# Altium footprint library Composants_Projet_PCB_Full.PcbLib: 52 footprints (part 1 of 4)
Each footprint in its own frame and in the unit in brackets; x right, y up, seen from the top. Pads: shape width x height; smd on the part's side, far side on the other; paste and mask are expansions set on the pad; w line width, h text height; cw(c..) or ccw(c..) is an arc to the next point about the centre after c.
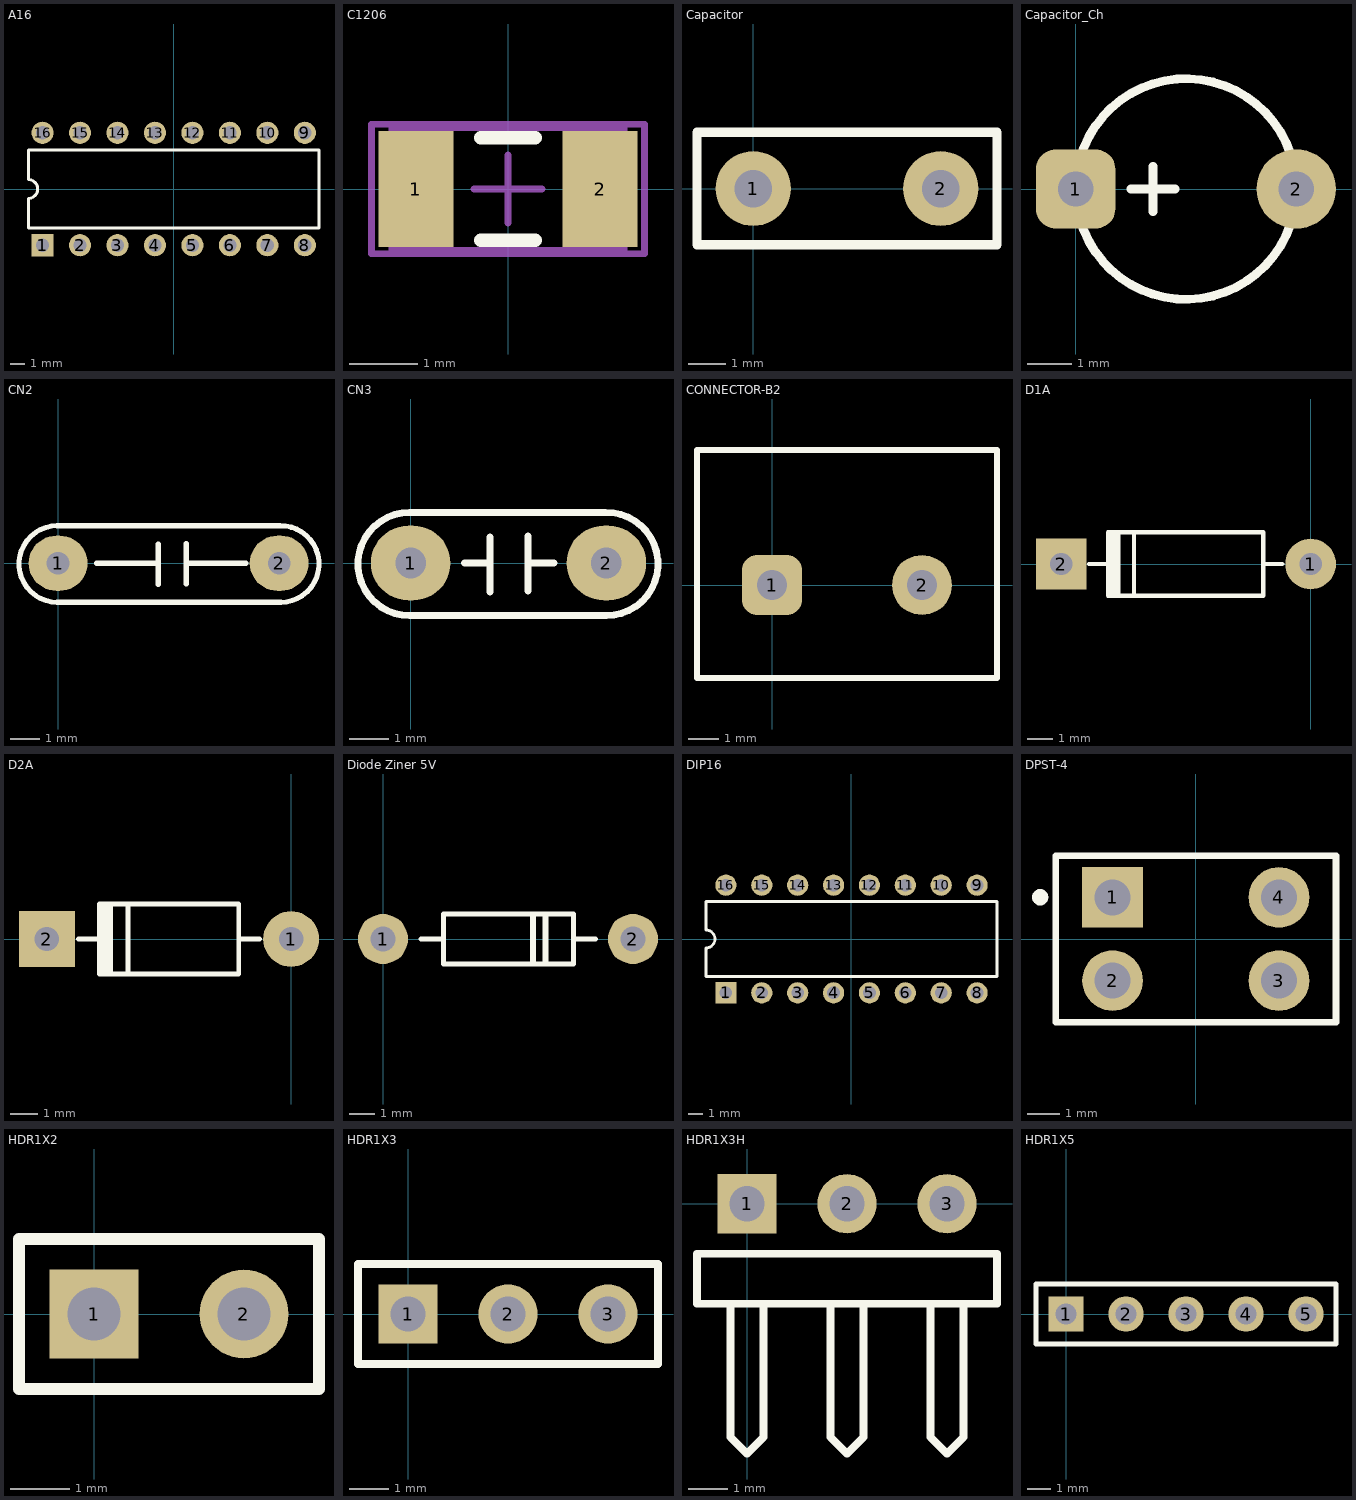
[diagram p0: the footprints below, top view; thin cyan lines are the x and y axes]

## A16 [mm]
pads (16):
  rect 1.5x1.5 hole 0.9: 1(-8.89,-3.81)
  round 1.5 hole 0.9: 2(-6.35,-3.81) 3(-3.81,-3.81) 4(-1.27,-3.81) 5(1.27,-3.81) 6(3.81,-3.81) 7(6.35,-3.81) 8(8.89,-3.81) 9(8.89,3.81) 10(6.35,3.81) 11(3.81,3.81) 12(1.27,3.81) 13(-1.27,3.81) 14(-3.81,3.81) 15(-6.35,3.81) 16(-8.89,3.81)
Top Overlay:
  lines w0.2: -9.85,-2.65 -9.85,-0.635 ccw(c-9.85,0) -9.85,0.635 -9.85,2.65 9.85,2.65 9.85,-2.65 -9.85,-2.65

## C1206 [mm]
pads (2):
  rect 1.1x1.7 smd: 1(-1.35,0) 2(1.35,0)
Top Overlay:
  lines w0.2: -0.4,-0.75 0.4,-0.75 ; -0.4,0.75 0.4,0.75
Mechanical 13:
  lines w0.1: -1.7,-0.9 -1.7,0.9 1.7,0.9 1.7,-0.9 -1.7,-0.9
Mechanical 15:
  lines w0.1: -0.5,0 0.5,0 ; 0,-0.5 0,0.5 ; -2,-0.95 -2,0.95 2,0.95 2,-0.95 -2,-0.95
3D body "CAP Tant T491 SMT.stp": height 3.81, standoff 2.01, extent -1.573,-0.911 1.827,0.889

## Capacitor [mm]
pads (2):
  round 2 hole 1: 1(0,0) 2(5,0)
Top Overlay:
  lines w0.1: -1.27,-1.524 -1.246,-1.5
  lines w0.25: -1.5,-1.5 -1.5,1.5 6.5,1.5 6.5,-1.5 -1.5,-1.5

## Capacitor_Ch [mm]
pads (2):
  rrect50% 1.8x1.8 hole 0.8: 1(0,0)
  round 1.8 hole 0.8: 2(5,0)
Top Overlay:
  circle w0.2: c2.5,0 r2.5
  lines w0.2: 1.25,0 2.25,0 ; 1.75,-0.508 1.75,0.508

## CN2 [mil]
pads (2):
  oval 80x75 hole 31: 1(0,0) 2(300,0)
Top Overlay:
  lines w7: -1,-53 cw(c-1,-1) -1,51 ; 0,51 300,51 ; 1,-53 300,-53 ; 52,0 136,0 ; 136,-29 136,26 ; 174,-28 174,27 ; 174,0 255,0 ; 300.96,50.99 cw(c302,-1) 302,-53
3D body "User Library-CAPML200 (2_5x6_6).STEP": height 359.84, standoff -148.32, extent -34.26,-56.17 244.28,46.19

## CN3 [mil]
pads (2):
  oval 80x75 hole 31: 1(0,0) 2(196.85,0)
Top Overlay:
  lines w7: -1,-53 cw(c-1,-1) -1,51 ; 0,51 195,51 ; 1,-53 196.85,-53 ccw(c196.85,-0.98) 195.81,51.01 ; 54.02,0 80.02,0 ; 80.02,-29 80.02,26 ; 118.02,-28 118.02,27 ; 118.02,0 144.02,0
3D body "User Library-CAPML200 (2_5x6_6).STEP": height 359.84, standoff -148.32, extent -34.26,-56.17 244.28,46.19

## CONNECTOR-B2 [mm] "HEADER 2PINS"
pads (2):
  rrect50% 2x2 hole 1: 1(0,0)
  round 2 hole 1: 2(5,0)
Top Overlay:
  lines w0.2: -2.5,-3.1 7.5,-3.1 7.5,4.5 -2.5,4.5 -2.5,-3.1

## D1A [mil]
pads (2):
  round 80 hole 35: 1(0,0)
  rect 80x80 hole 35: 2(-393.7,0)
Top Overlay:
  rectangle: -320,-50 -300,50
  lines w7: -350,0 -320,0 ; -320,-16 -320,0 ; -320,21 -320,0 ; -279,-50 -279,47 ; -75,0 -45,0 ; -320,0 -320,-50 -75,-50 -75,50 -320,50 -320,0
3D body "User Library-DO-41 10mm.STEP": height 112.77, standoff -98.43, extent -413.94,-53.63 13.62,53.65

## D2A [mil]
pads (2):
  round 80 hole 35: 1(0,0)
  rect 80x80 hole 35: 2(-350,0)
Top Overlay:
  rectangle: -275,-50 -255,50
  lines w7: -305,0 -275,0 ; -275,-16 -275,0 ; -275,21 -275,0 ; -234,-50 -234,47 ; -75,0 -45,0 ; -275,0 -275,-50 -75,-50 -75,50 -275,50 -275,0
3D body "User Library-DO-41 10mm.STEP": height 121.83, standoff -89.37, extent -387.56,-43.64 40,63.64

## Diode Ziner 5V [mm]
pads (2):
  round 2 hole 1: 1(0,0) 2(10,0)
Top Overlay:
  lines w0.2: 1.524,0 2.413,0 ; 7.62,0 8.5,0 ; 2.413,-1 2.413,1 7.62,1 7.62,-1 2.413,-1
  lines w0.254: 6,-0.9 6,0.9 ; 6.5,-0.9 6.5,0.9

## DIP16 [mm]
pads (16):
  rect 1.5x1.5 hole 0.9: 1(-8.89,-3.81)
  round 1.5 hole 0.9: 2(-6.35,-3.81) 3(-3.81,-3.81) 4(-1.27,-3.81) 5(1.27,-3.81) 6(3.81,-3.81) 7(6.35,-3.81) 8(8.89,-3.81) 9(8.89,3.81) 10(6.35,3.81) 11(3.81,3.81) 12(1.27,3.81) 13(-1.27,3.81) 14(-3.81,3.81) 15(-6.35,3.81) 16(-8.89,3.81)
Top Overlay:
  lines w0.2: -10.3,-2.65 -10.3,-0.635 ccw(c-10.3,0) -10.3,0.635 -10.3,2.65 10.3,2.65 10.3,-2.65 -10.3,-2.65
3D body "PowerDIP-16_STM.step": height 5.24, standoff -2.54, extent -9.995,-3.937 9.995,4.191

## DPST-4 [mm]
pads (4):
  rect 1.85x1.85 hole 1.1: 1(-2.54,1.27)
  round 1.85 hole 1.1: 2(-2.54,-1.27) 3(2.54,-1.27) 4(2.54,1.27)
Top Overlay:
  circle w0.25: c-4.751,1.274 r0.125
  lines w0.2: -4.28,-2.54 4.28,-2.54 4.28,2.54 -4.28,2.54 -4.28,-2.54
3D body "User Library-TS-1150-WP.STEP": height 5, standoff -3.5, extent -3.733,-2.15 4.534,4.35

## HDR1X2 [mm]
pads (2):
  rect 1.5x1.5 hole 0.9: 1(0,0)
  round 1.5 hole 0.9: 2(2.54,0)
Top Overlay:
  lines w0.2: -1.27,-1.27 -1.27,1.27 3.81,1.27 3.81,-1.27 -1.27,-1.27
3D body "User Library-Header_Male_2Pin.STEP": height 8.54, standoff -3, extent -1.27,-1.245 3.81,1.245

## HDR1X3 [mm]
pads (3):
  rect 1.5x1.5 hole 0.9: 1(0,0)
  round 1.5 hole 0.9: 2(2.54,0) 3(5.08,0)
Top Overlay:
  lines w0.2: -1.27,-1.27 -1.27,1.27 6.35,1.27 6.35,-1.27 -1.27,-1.27
3D body "User Library-PinHeaderX3.STEP": height 8.51, standoff -3.68, extent -1.27,-1.46 6.35,1.46

## HDR1X3H [mm]
pads (3):
  rect 1.5x1.5 hole 0.9: 1(0,0)
  round 1.5 hole 0.9: 2(2.54,0) 3(5.08,0)
Top Overlay:
  lines w0.2: -0.423,-2.54 -0.423,-5.927 0,-6.35 0.423,-5.927 0.423,-2.54 ; 2.117,-2.54 2.117,-5.927 2.54,-6.35 2.963,-5.927 2.963,-2.54 ; 4.657,-2.54 4.657,-5.927 5.08,-6.35 5.503,-5.927 5.503,-2.54 ; -1.27,-2.54 -1.27,-1.27 6.35,-1.27 6.35,-2.54 -1.27,-2.54

## HDR1X5 [mm]
pads (5):
  rect 1.5x1.5 hole 0.9: 1(0,0)
  round 1.5 hole 0.9: 2(2.54,0) 3(5.08,0) 4(7.62,0) 5(10.16,0)
Top Overlay:
  lines w0.2: -1.27,-1.27 -1.27,1.27 11.43,1.27 11.43,-1.27 -1.27,-1.27